# Altium integrated library SS14FL.IntLib: 1 symbol
Pins are listed as number, name and electrical type; pins without a type are passive.

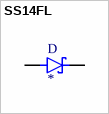
[diagram p0: symbol SS14FL]

## SS14FL
designator D
Diode Schottky 40V 1A Surface Mount SOD-123F; MF: ON Semiconductor; MP: SS14FL; Value: *; Digi-Key_Part_Number: SS14FLCT-ND; Package: SOD-123F ON Semiconductor; Digi-Key_Purchase_URL: https://www.digikey.com/product-detail/en/on-semiconductor/SS14FL/SS14FLCT-ND/5305092?utm_source=snapeda&utm_medium=aggregator&utm_campaign=symbol; SnapEDA_Link: https://www.snapeda.com/parts/SS14FL/ON%20Semiconductor/view-part/2651388/?ref=snap
footprint SODFL3617X108N
pins: A, C K